# Altium footprint library PCB - POWER INDUCTORS - LAIRD MGV1207.PcbLib: 1 footprints
Each footprint in its own frame and in the unit in brackets; x right, y up, seen from the top. Pads: shape width x height; smd on the part's side, far side on the other; paste and mask are expansions set on the pad; w line width, h text height; cw(c..) or ccw(c..) is an arc to the next point about the centre after c.
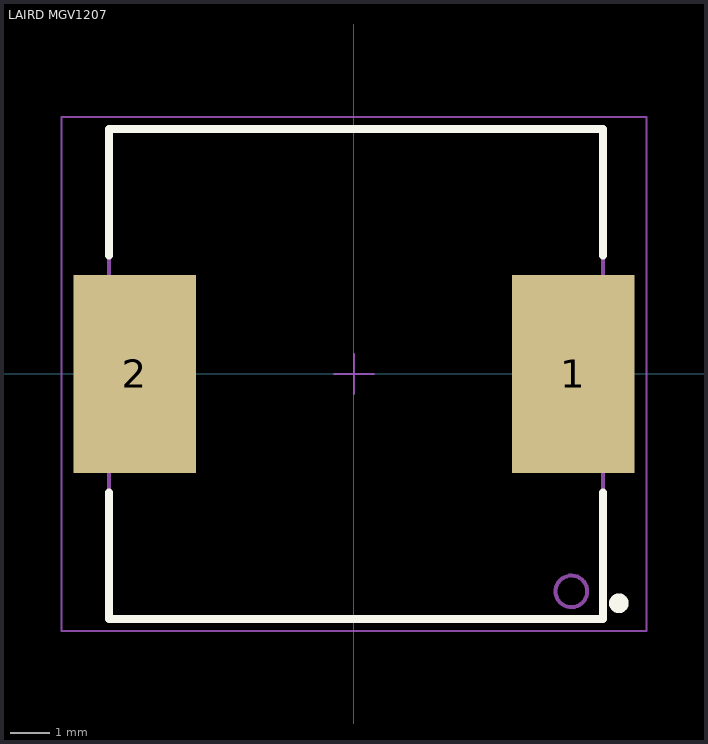
[diagram p0: the footprint, top view; thin cyan lines are the x and y axes]

## LAIRD MGV1207 [mm] "SMD Power Inductor, 2-Leads, body 12.5x12.5mm"
height 6.2
pads (2):
  rect 3.1x5 smd: 1(5.55,0) 2(-5.55,0)
Top Overlay:
  circle w0.25: c6.7,-5.8 r0.125
  lines w0.2: -6.2,-3 -6.2,-6.2 6.3,-6.2 6.3,-3 ; -6.2,3 -6.2,6.2 6.3,6.2 6.3,3
Top 3D Body:
  circle w0.1: c5.5,-5.5 r0.4
  lines w0.1: -6.2,-6.2 6.3,-6.2 6.3,6.2 -6.2,6.2 -6.2,-6.2
Top Component Outline:
  circle w0.1: c5.5,-5.5 r0.4
  lines w0.1: -6.2,-6.2 6.3,-6.2 6.3,6.2 -6.2,6.2 -6.2,-6.2
Top Courtyard:
  lines w0.05: -0.5,0 0.5,0 ; 0,-0.5 0,0.5 ; -7.4,-6.5 -7.4,6.5 7.4,6.5 7.4,-6.5 -7.4,-6.5
3D body "LAIRD MGV1207.step": height 6.2, standoff 0, extent -6.75,-6.25 6.75,6.25